# Altium footprint library PCB - RESISTOR - CHIP - RES 2010_5025.PCBLIB: 1 footprints
Each footprint in its own frame and in the unit in brackets; x right, y up, seen from the top. Pads: shape width x height; smd on the part's side, far side on the other; paste and mask are expansions set on the pad; w line width, h text height; cw(c..) or ccw(c..) is an arc to the next point about the centre after c.
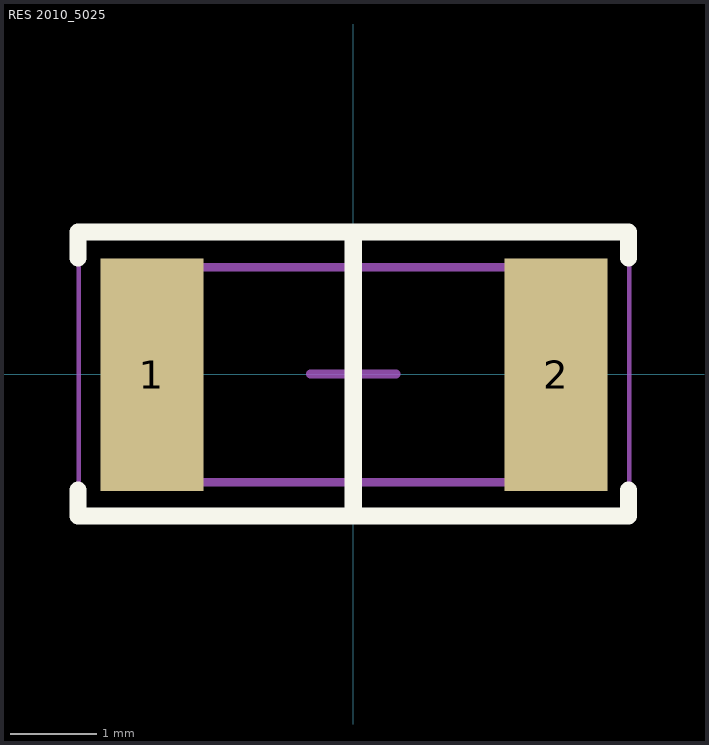
[diagram p0: the footprint, top view; thin cyan lines are the x and y axes]

## RES 2010_5025 [mm] "Chip Resistor, 2-Leads, Body 0.6x5x2.5mm, IPC Medium Density"
height 0.7
pads (2):
  rect 1.2x2.7 smd: 1(-2.341,-0.008) 2(2.359,-0.008)
Top Overlay:
  lines w0.2: -3.2,-1.35 -3.2,-1.65 3.2,-1.65 3.2,-1.35 ; -3.2,1.35 -3.2,1.65 3.2,1.65 3.2,1.35 ; 0,-1.6 0,1.6
Top Assembly:
  lines w0.1: -2.491,-1.258 2.509,-1.258 2.509,1.242 -2.491,1.242 -2.491,-1.258
Top Courtyard:
  lines w0.05: -3.191,-1.608 3.209,-1.608 3.209,1.592 -3.191,1.592 -3.191,-1.608
Top Designator:
  text ".Designator" at -2.05,3.05 h1
Top Component Center:
  lines w0.1: -0.5,0 0.5,0 ; 0,-0.5 0,0.5
Top Value (Mech13):
  text ".Comment" at -2.05,2.05 h1
3D body "CRCW2010470RFKTF.stp": height 0.7, standoff 0, extent -2.491,-1.258 2.509,1.242